# EAGLE library part SN65HVD (library isystems)
RS485 Transceivers Variants SN65HVD72: 3.3V, Half-Duplex RS-485, 12kV IEC ESD, 250kbps data rate SN65HVD75: 3.3V, Half-Duplex RS-485, 12kV IEC ESD, 20Mbps data rate SN65HVD78: 3.3V, Half-Duplex RS-485, 12kV IEC ESD, 50Mbps data rate
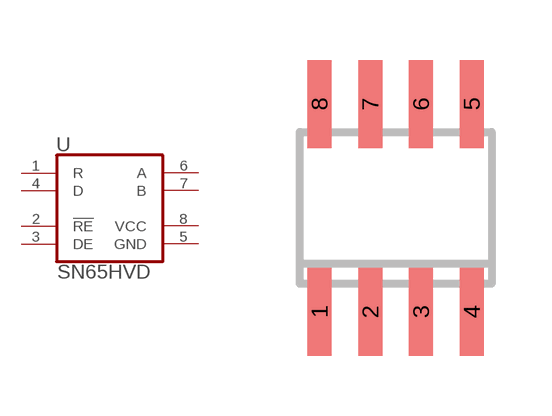
[diagram p43: symbol with the pads of SOIC8; footprint SOIC8]

Designator prefix U

## SN65HVD72D, SN65HVD75D, SN65HVD78D  [SOIC8]
1  R  out
2  !RE  in
3  DE  in
4  D  in
5  GND  pas
6  A  out
7  B  out
8  VCC  pwr

## Footprint SOIC8 (pad centres in mm)
Small Outline IC
smd 0.6 x 2.2: 1 -1.905,-2.6; 2 -0.635,-2.6; 3 0.635,-2.6; 4 1.905,-2.6; 5 1.905,2.6; 6 0.635,2.6; 7 -0.635,2.6; 8 -1.905,2.6